# Altium footprint library StandardDevices.PcbLib: 59 footprints (part 3 of 4)
Each footprint in its own frame and in the unit in brackets; x right, y up, seen from the top. Pads: shape width x height; smd on the part's side, far side on the other; paste and mask are expansions set on the pad; w line width, h text height; cw(c..) or ccw(c..) is an arc to the next point about the centre after c.
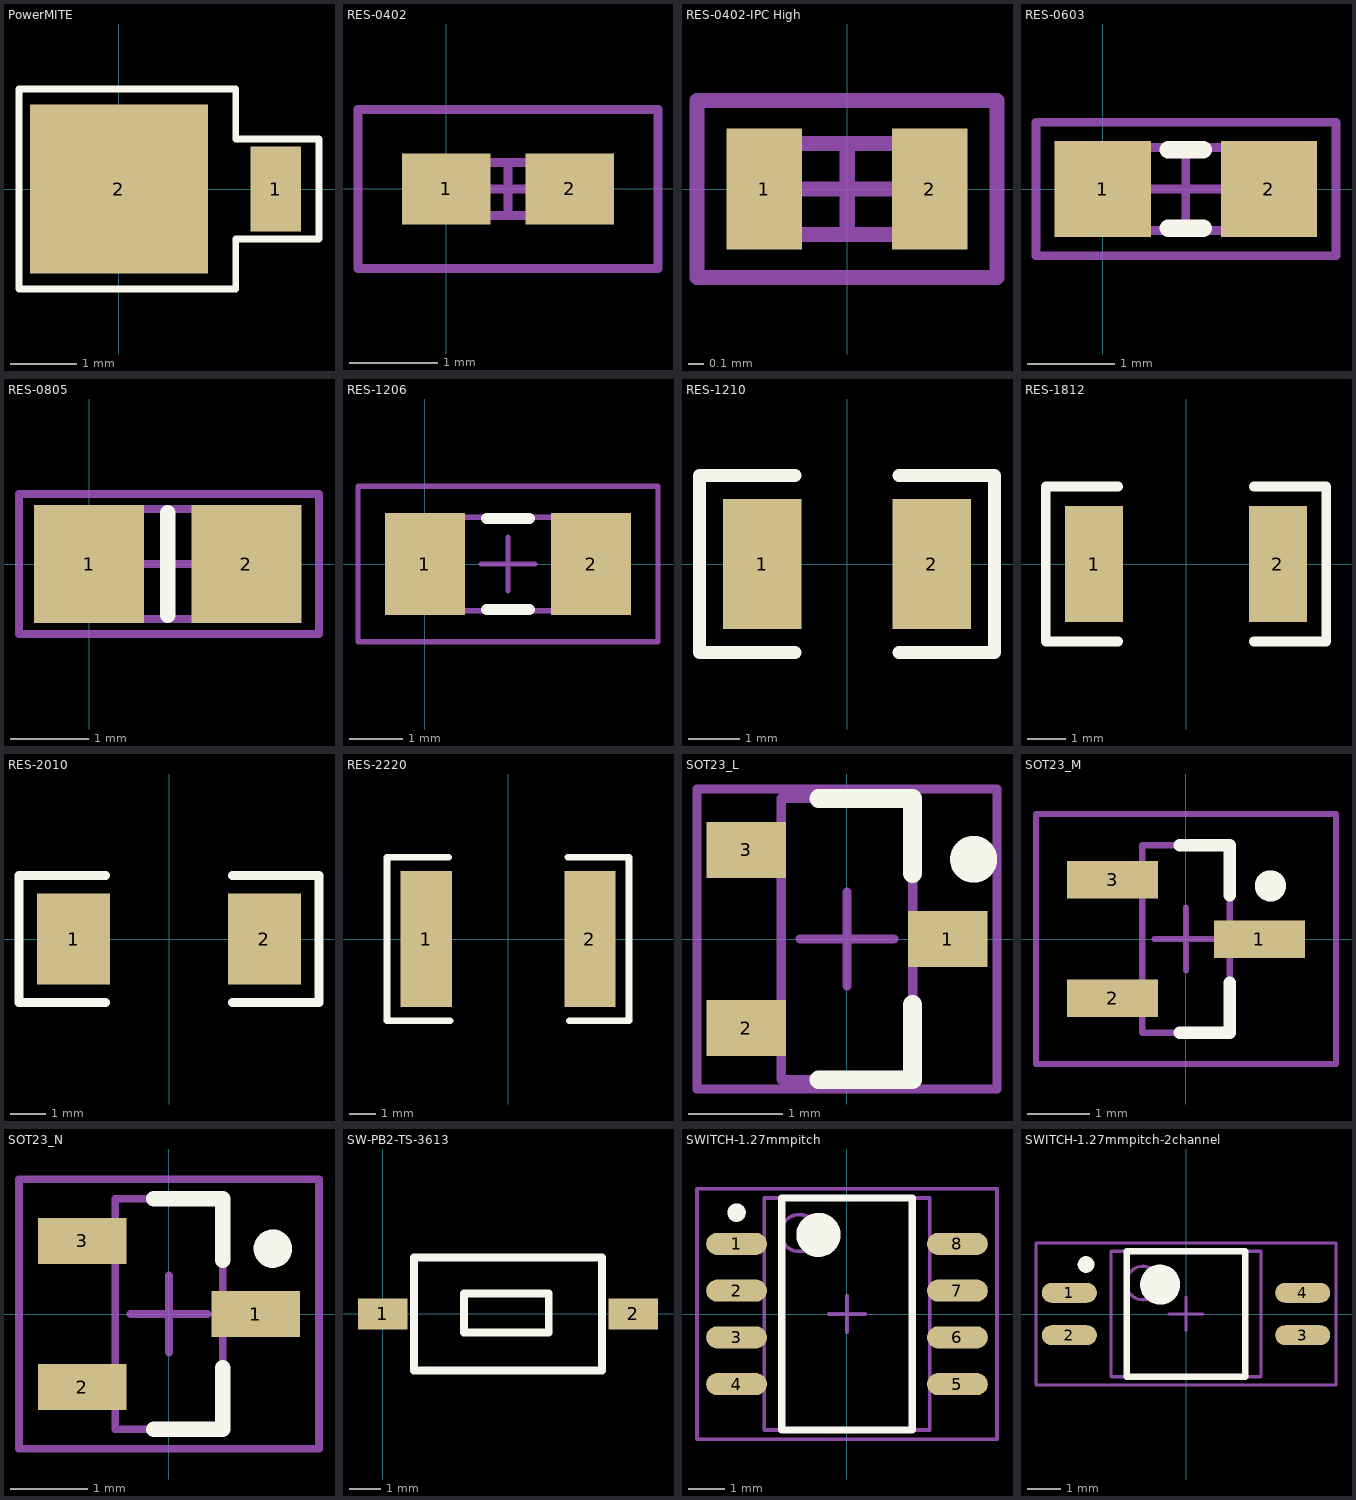
[diagram p2: the footprints below, top view; thin cyan lines are the x and y axes]

## PowerMITE [mm] "POWERMITE package for Diodes by ON Semi"
pads (2):
  rect 0.762x1.27 smd: 1(2.351,0)
  rect 2.67x2.54 smd: 2(0,0)
Top Overlay:
  lines w0.1: -1.5,-1.5 -1.5,1.5 1.75,1.5 1.75,0.75 3,0.75 3,-0.75 1.75,-0.75 1.75,-1.5 -1.5,-1.5
3D body: height 1, standoff 0, extent -1.1,-1 2.7,1

## RES-0402 [mm]
pads (2):
  rect 1x0.8 smd: 1(0,0) 2(1.4,0)
Mechanical 13:
  lines w0.1: 0.15,-0.3 1.25,-0.3 1.25,0.3 0.15,0.3 0.15,-0.3
Mechanical 15:
  lines w0.1: 0.4,0 1,0 ; 0.7,-0.3 0.7,0.3 ; -1,-0.9 2.4,-0.9 2.4,0.9 -1,0.9 -1,-0.9
3D body: height 0.4, standoff 0, extent 0.15,-0.3 1.25,0.3

## RES-0402-IPC High [mm]
pads (2):
  rect 0.5x0.8 smd: 1(-0.546,0) 2(0.546,0)
Mechanical 13:
  lines w0.1: -0.549,-0.3 -0.549,0.3 0.552,0.3 0.552,-0.3 -0.549,-0.3
Mechanical 15:
  lines w0.1: -0.299,0 0.302,0 ; 0.002,-0.3 0.002,0.3 ; -0.991,-0.584 -0.991,0.584 0.991,0.584 0.991,-0.584 -0.991,-0.584
3D body: height 0.4, standoff 0, extent -0.549,-0.3 0.551,0.3

## RES-0603 [mm]
pads (2):
  rect 1.1x1.1 smd: 1(0,0) 2(1.9,0)
Top Overlay:
  lines w0.2: 0.75,-0.45 1.15,-0.45 ; 0.75,0.45 1.15,0.45
Mechanical 13:
  lines w0.1: 0.1,-0.475 1.8,-0.475 1.8,0.475 0.1,0.475 0.1,-0.475
Mechanical 15:
  lines w0.1: 0.475,0 1.425,0 ; 0.95,-0.475 0.95,0.475 ; -0.762,-0.762 2.667,-0.762 2.667,0.762 -0.762,0.762 -0.762,-0.762
3D body: height 0.6, standoff 0, extent 0.1,-0.475 1.8,0.475

## RES-0805 [mm]
pads (2):
  rect 1.4x1.5 smd: 1(0,0) 2(2,0)
Top Overlay:
  lines w0.2: 1,-0.65 1,0.65
Mechanical 13:
  lines w0.1: -0.075,-0.7 2.075,-0.7 2.075,0.7 -0.075,0.7 -0.075,-0.7
Mechanical 15:
  lines w0.1: 0.5,0 1.5,0 ; 1,-0.5 1,0.5 ; -0.889,-0.889 2.921,-0.889 2.921,0.889 -0.889,0.889 -0.889,-0.889
3D body: height 0.65, standoff 0, extent -0.075,-0.7 2.075,0.7

## RES-1206 [mm]
pads (2):
  rect 1.5x1.9 smd: 1(0,0) 2(3.1,0)
Top Overlay:
  lines w0.2: 1.15,-0.85 1.95,-0.85 ; 1.15,0.85 1.95,0.85
Mechanical 13:
  lines w0.1: -0.125,-0.875 -0.125,0.875 3.225,0.875 3.225,-0.875 -0.125,-0.875
Mechanical 15:
  lines w0.1: 1.05,0 2.05,0 ; 1.55,-0.5 1.55,0.5 ; -1.25,-1.45 -1.25,1.45 4.35,1.45 4.35,-1.45 -1.25,-1.45
3D body: height 0.71, standoff 0, extent -0.125,-0.875 3.225,0.875

## RES-1210 [mil]
pads (2):
  rect 60x100 smd: 1(-65,0) 2(65,0)
Top Overlay:
  lines w10: -40,-68 -113,-68 -113,68 -40,68 ; 40,-68 113,-68 113,68 40,68

## RES-1812 [mil]
pads (2):
  rect 60x120 smd: 1(-95,0) 2(95,0)
Top Overlay:
  lines w10: -70,-80 -145,-80 -145,80 -70,80 ; 70,-80 145,-80 145,80 70,80

## RES-2010 [mil]
pads (2):
  rect 80x100 smd: 1(-105,0) 2(105,0)
Top Overlay:
  lines w10: -70,-70 -165,-70 -165,70 -70,70 ; 70,-70 165,-70 165,70 70,70

## RES-2220 [mil]
pads (2):
  rect 75x200 smd: 1(-120,0) 2(120,0)
Top Overlay:
  lines w10: -87.5,120 -177.5,120 -177.5,-120 -85,-120 ; 87.5,120 177.5,120 177.5,-120 90,-120

## SOT23_L [mm] "SOT23, 3-Leads, Body 2.9x1.3mm, Pitch 0.95mm, Lead Span 2.3mm - Reverse Pinning, IPC High Density"
height 1.1
pads (3):
  rect 0.85x0.6 smd: 1(1.075,0) 2(-1.075,-0.95) 3(-1.075,0.95)
Top Overlay:
  circle w0.25: c1.35,0.85 r0.125
  lines w0.2: -0.3,-1.5 0.7,-1.5 0.7,-0.7 ; -0.3,1.5 0.7,1.5 0.7,0.7
Mechanical 13:
  lines w0.1: -0.7,-1.5 0.7,-1.5 0.7,1.5 -0.7,1.5 -0.7,-1.5
Mechanical 15:
  lines w0.1: -0.5,0 0.5,0 ; 0,-0.5 0,0.5 ; -1.6,-1.6 1.6,-1.6 1.6,1.6 -1.6,1.6 -1.6,-1.6
3D body: height 1.1, standoff 0, extent -0.7,-1.5 0.7,1.5

## SOT23_M [mm] "SOT23, 3-Leads, Body 2.9x1.3mm, Pitch 0.95mm, Lead Span 2.3mm - Reverse Pinning, IPC Low Density"
height 1.1
pads (3):
  rect 1.45x0.6 smd: 1(1.175,0) 2(-1.175,-0.95) 3(-1.175,0.95)
Top Overlay:
  circle w0.25: c1.35,0.85 r0.125
  lines w0.2: -0.1,-1.5 0.7,-1.5 0.7,-0.7 ; -0.1,1.5 0.7,1.5 0.7,0.7
Mechanical 13:
  lines w0.1: -0.7,-1.5 0.7,-1.5 0.7,1.5 -0.7,1.5 -0.7,-1.5
Mechanical 15:
  lines w0.1: -0.5,0 0.5,0 ; 0,-0.5 0,0.5 ; -2.4,-2 2.4,-2 2.4,2 -2.4,2 -2.4,-2
3D body: height 1.1, standoff 0, extent -0.7,-1.5 0.7,1.5

## SOT23_N [mm] "SOT23, 3-Leads, Body 2.9x1.3mm, Pitch 0.95mm, Lead Span 2.3mm - Reverse Pinning, IPC Medium Density"
height 1.1
pads (3):
  rect 1.15x0.6 smd: 1(1.125,0) 2(-1.125,-0.95) 3(-1.125,0.95)
Top Overlay:
  circle w0.25: c1.35,0.85 r0.125
  lines w0.2: -0.2,-1.5 0.7,-1.5 0.7,-0.7 ; -0.2,1.5 0.7,1.5 0.7,0.7
Mechanical 13:
  lines w0.1: -0.7,-1.5 0.7,-1.5 0.7,1.5 -0.7,1.5 -0.7,-1.5
Mechanical 15:
  lines w0.1: -0.5,0 0.5,0 ; 0,-0.5 0,0.5 ; -1.95,-1.75 1.95,-1.75 1.95,1.75 -1.95,1.75 -1.95,-1.75
3D body: height 1.1, standoff 0, extent -0.7,-1.5 0.7,1.5

## SW-PB2-TS-3613 [mm]
pads (2):
  rect 1.575x1 smd: 1(0,0) 2(8,0)
Top Overlay:
  lines w0.254: 1,-1.8 7,-1.8 7,1.8 1,1.8 1,-1.8 ; 2.6,-0.588 2.6,0.657 5.3,0.657 5.3,-0.588 2.6,-0.588

## SWITCH-1.27mmpitch [mm] "SOIC, 8-Leads, Body 6.3x4.5mm (max), Pitch 1.27mm, IPC Medium Density"
height 1.5
pads (8):
  oval 1.65x0.6 smd: 1(-3,1.905) 2(-3,0.635) 3(-3,-0.635) 4(-3,-1.905) 5(3,-1.905) 6(3,-0.635) 7(3,0.635) 8(3,1.905)
Top Overlay:
  circle w0.25: c-3,2.755 r0.125
  circle w0.6: c-0.775,2.15 r0.3
  lines w0.2: -1.775,-3.15 -1.775,3.15 1.775,3.15 1.775,-3.15 -1.775,-3.15
Mechanical 13:
  circle w0.1: c-1.3,2.2 r0.5
  lines w0.1: -2.25,-3.15 -2.25,3.15 2.25,3.15 2.25,-3.15 -2.25,-3.15
Mechanical 15:
  lines w0.1: -0.5,0 0.5,0 ; 0,-0.5 0,0.5 ; -4.075,-3.4 -4.075,3.4 4.075,3.4 4.075,-3.4 -4.075,-3.4
3D body: height 1.5, standoff 0.15, extent -2.25,-3.15 2.25,3.15

## SWITCH-1.27mmpitch-2channel [mm] "SOIC, 8-Leads, Body 6.3x4.5mm (max), Pitch 1.27mm, IPC Medium Density"
height 1.5
pads (4):
  oval 1.65x0.6 smd: 1(-3.5,0.635) 2(-3.5,-0.635) 3(3.5,-0.635) 4(3.5,0.635)
Top Overlay:
  circle w0.25: c-3,1.485 r0.125
  circle w0.6: c-0.775,0.88 r0.3
  lines w0.2: -1.775,-1.88 -1.775,1.88 1.775,1.88 1.775,-1.88 -1.775,-1.88
Mechanical 13:
  circle w0.1: c-1.3,0.93 r0.5
  lines w0.1: -2.25,-1.88 -2.25,1.88 2.25,1.88 2.25,-1.88 -2.25,-1.88
Mechanical 15:
  lines w0.1: -0.5,0 0.5,0 ; 0,-0.495 0,0.505 ; -4.5,-2.13 -4.5,2.13 4.5,2.13 4.5,-2.13 -4.5,-2.13
3D body: height 1.5, standoff 0.15, extent -2.25,-1.875 2.25,1.88